# Altium schematic symbol library lmp7704-sp.SchLib: 1 symbol
Pins are listed as number, name and electrical type; pins without a type are passive.

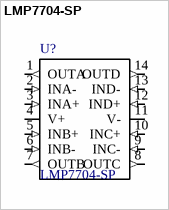
[diagram p0: symbol LMP7704-SP]

## LMP7704-SP
designator U?
footprint lmp7704-sp-cfp
pins: 1 OUTA (out), 2 INA- (in), 3 INA+ (in), 4 V+ (power), 5 INB+ (in), 6 INB- (in), 7 OUTB (out), 8 OUTC (out), 9 INC- (in), 10 INC+ (in), 11 V- (power), 12 IND+ (in), 13 IND- (in), 14 OUTD (out)